# Altium footprint library Rez_Cap.PcbLib: 21 footprints (part 1 of 2)
Each footprint in its own frame and in the unit in brackets; x right, y up, seen from the top. Pads: shape width x height; smd on the part's side, far side on the other; paste and mask are expansions set on the pad; w line width, h text height; cw(c..) or ccw(c..) is an arc to the next point about the centre after c.
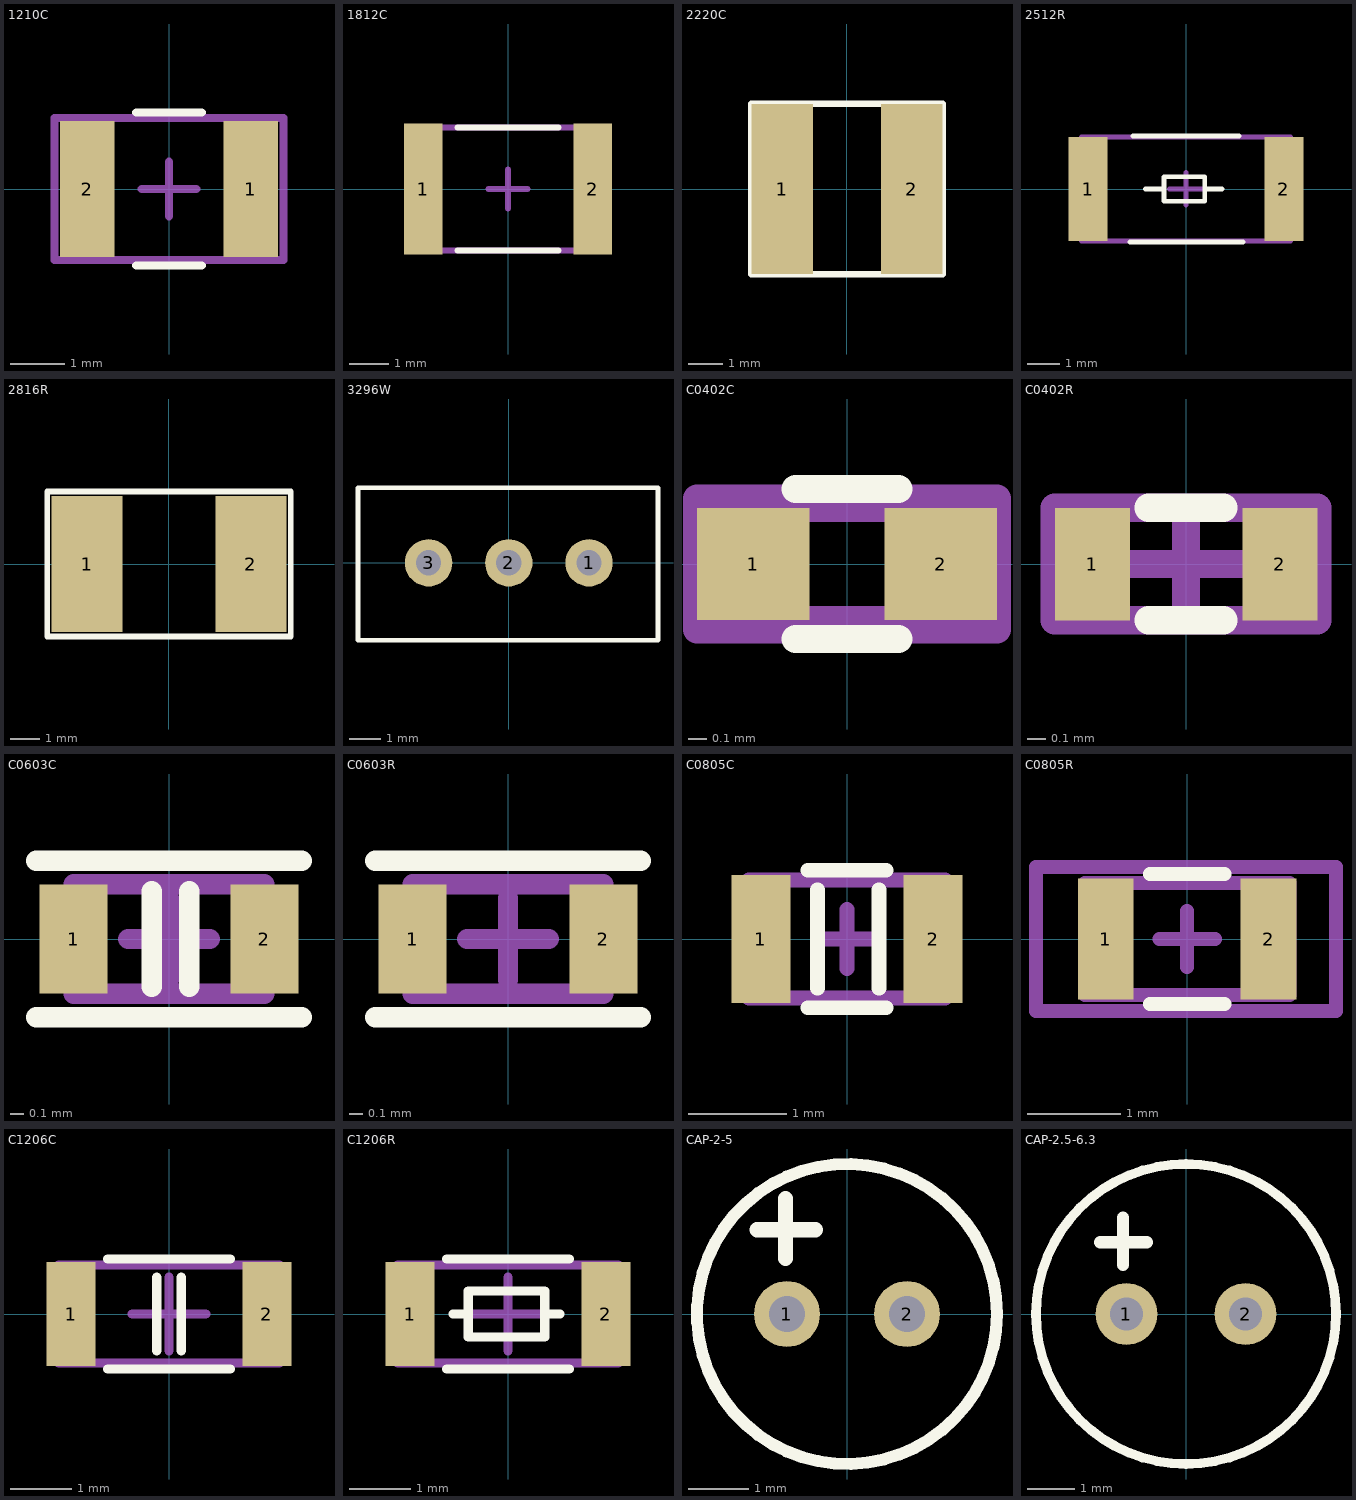
[diagram p0: the footprints below, top view; thin cyan lines are the x and y axes]

## 1210C [mm]
pads (2):
  rect 1x2.5 smd: 1(1.5,0) 2(-1.5,0)
Top Overlay:
  lines w0.15: -0.6,-1.4 0.6,-1.4 ; -0.6,1.4 0.6,1.4
Top Courtyard:
  lines w0.15: -0.5,0 0.5,0 ; 0,-0.5 0,0.5 ; -2.1,-1.3 -2.1,1.3 2.1,1.3 2.1,-1.3 -2.1,-1.3
3D body: height 1.6, standoff 0, extent -2,-1.3 -0.9,1.3
3D body: height 1.6, standoff 0, extent -0.9,-1.3 0.9,1.3
3D body: height 1.6, standoff 0, extent 0.9,-1.3 2,1.3

## 1812С [mm]
pads (2):
  rect 1x3.35 smd: 1(-2.175,0) 2(2.175,0)
Top Overlay:
  lines w0.15: -1.3,-1.575 1.3,-1.575 ; -1.3,1.575 1.3,1.575
Top Courtyard:
  lines w0.15: -0.5,0 0.5,0 ; 0,-0.5 0,0.5 ; -2.3,-1.575 -2.3,1.575 2.3,1.575 2.3,-1.575 -2.3,-1.575
3D body "C1812C.step": height 1, standoff 0, extent -2.25,-1.6 2.25,1.6

## 2220С [mm]
pads (2):
  rect 1.8x5 smd: 1(-1.9,0) 2(1.9,0)
Top Overlay:
  lines w0.2: -2.8,-2.5 2.8,-2.5 2.8,2.5 -2.8,2.5 -2.8,0 -2.8,-2.5

## 2512R [mm]
pads (2):
  rect 1.2x3.2 smd: 1(-3,0) 2(3,0)
Top Overlay:
  lines w0.15: -1.725,-1.625 1.75,-1.625 ; -1.625,1.625 1.625,1.625 ; -1.25,0 -0.675,0 ; 1.1,0 0.575,0 ; -0.675,0 -0.675,0.375 0.575,0.375 0.575,0 ; -0.675,0 -0.675,-0.375 0.575,-0.375 0.575,0
Top Courtyard:
  lines w0.15: -0.5,0 0.5,0 ; 0,-0.5 0,0.5 ; -3.2,-1.6 -3.2,1.6 3.2,1.6 3.2,-1.6 -3.2,-1.6
3D body: height 0.55, standoff 0, extent -2.5,-1.6 2.5,1.6
3D body: height 0.55, standoff 0, extent 2.5,-1.6 3.2,1.6
3D body: height 0.55, standoff 0, extent -3.2,-1.6 -2.5,1.6

## 2816R [mm]
pads (2):
  rect 2.45x4.7 smd: 1(-2.825,0) 2(2.825,0)
Top Overlay:
  lines w0.2: -4.2,-2.5 -4.2,0 -4.2,2.5 4.2,2.5 4.2,-2.5 -4.2,-2.5

## 3296W [mm]
pads (3):
  round 1.5 hole 0.8: 1(2.54,0) 2(0,0) 3(-2.54,0)
Top Overlay:
  lines w0.15: -4.775,-2.45 -4.775,2.375 4.725,2.375 4.725,-2.45 -4.775,-2.45
3D body "3296W.STEP": height 11.52, standoff -3, extent -4.765,-2.43 4.765,2.4

## C0402C [mm]
pads (2):
  rect 0.6x0.6 smd: 1(-0.5,0) 2(0.5,0)
Top Overlay:
  lines w0.15: -0.275,-0.4 0.275,-0.4 ; -0.275,0.4 0.275,0.4
Top Courtyard:
  lines w0.15: -0.8,-0.3 0.8,-0.3 0.8,0.3 -0.8,0.3 -0.8,-0.3
Mechanical 29:
  lines w0.15: -0.8,-0.35 -0.8,0.35 0.8,0.35 0.8,-0.35 -0.8,-0.35
3D body "0402C.STEP": height 0.36, standoff 0, extent -0.5,-0.265 0.5,0.265

## C0402R [mm]
pads (2):
  rect 0.4x0.6 smd: 1(-0.5,0) 2(0.5,0)
Top Overlay:
  lines w0.15: -0.2,-0.3 0.2,-0.3 ; -0.2,0.3 0.2,0.3
Top Courtyard:
  lines w0.15: -0.3,0 0.3,0 ; 0,-0.3 0,0.3 ; -0.7,-0.3 -0.7,0.3 0.7,0.3 0.7,-0.3 -0.7,-0.3
3D body "0402R.STEP": height 0.34, standoff 0, extent -0.52,-0.3 0.52,0.3

## C0603C [mm]
height 0.8
pads (2):
  rect 0.5x0.8 smd: 1(-0.7,0) 2(0.7,0)
Top Overlay:
  lines w0.15: -0.975,-0.575 0.975,-0.575 ; -0.975,0.575 0.975,0.575 ; -0.127,-0.35 -0.127,0.35 ; 0.148,-0.35 0.148,0.35
Top Courtyard:
  lines w0.15: -0.3,0 0.3,0 ; 0,-0.3 0,0.3 ; -0.7,-0.4 -0.7,0.4 0.7,0.4 0.7,-0.4 -0.7,-0.4
3D body: height 0.5, standoff 0, extent 0.4,-0.4 0.8,0.4
3D body: height 0.5, standoff 0, extent -0.4,-0.4 0.4,0.4
3D body: height 0.5, standoff 0, extent -0.8,-0.4 -0.4,0.4

## C0603R [mm]
height 0.45
pads (2):
  rect 0.5x0.8 smd: 1(-0.7,0) 2(0.7,0)
Top Overlay:
  lines w0.15: -0.975,-0.575 0.975,-0.575 ; -0.975,0.575 0.975,0.575
Top Courtyard:
  lines w0.15: -0.3,0 0.3,0 ; 0,-0.3 0,0.3 ; -0.7,-0.4 -0.7,0.4 0.7,0.4 0.7,-0.4 -0.7,-0.4
3D body: height 0.45, standoff 0, extent -0.5,-0.41 0.5,0.41
3D body: height 0.45, standoff 0, extent 0.5,-0.41 0.7,0.41
3D body: height 0.45, standoff 0, extent -0.7,-0.41 -0.5,0.41

## C0805C [mm]
height 1
pads (2):
  rect 0.6x1.3 smd: 1(-0.875,0) 2(0.875,0)
Top Overlay:
  lines w0.15: -0.4,-0.7 0.4,-0.7 ; -0.4,0.7 0.4,0.7 ; -0.3,-0.5 -0.3,0.5 ; 0.325,-0.5 0.325,0.5
Top Courtyard:
  lines w0.15: -0.3,0 0.3,0 ; 0,-0.3 0,0.3 ; -1,-0.6 -1,0.6 1,0.6 1,-0.6 -1,-0.6
3D body: height 0.8, standoff 0, extent 0.4,-0.6 1,0.6
3D body: height 0.8, standoff 0, extent -0.4,-0.6 0.4,0.6
3D body: height 0.8, standoff 0, extent -1,-0.6 -0.4,0.6

## C0805R [mm]
height 1
pads (2):
  rect 0.6x1.3 smd: 1(-0.875,0) 2(0.875,0)
Top Overlay:
  lines w0.15: -0.4,-0.7 0.4,-0.7 ; -0.4,0.7 0.4,0.7
Top Courtyard:
  lines w0.15: -0.3,0 0.3,0 ; 0,-0.3 0,0.3 ; -1.1,-0.6 1.1,-0.6 1.1,0.6 -1.1,0.6 -1.1,-0.6
Mechanical 29:
  lines w0.15: -1.625,-0.775 -1.625,0.775 1.6,0.775 1.6,-0.775 -1.625,-0.775
  text ".Designator" at -1.5,-0.5 h1
3D body: height 0.5, standoff 0, extent 0.4,-0.6 1,0.6
3D body: height 0.5, standoff 0, extent -0.4,-0.6 0.4,0.6
3D body: height 0.5, standoff 0, extent -1,-0.6 -0.4,0.6

## C1206C [mm]
pads (2):
  rect 0.8x1.7 smd: 1(-1.6,0) 2(1.6,0)
Top Overlay:
  lines w0.15: -1,-0.9 1,-0.9 ; -1,0.9 1,0.9 ; -0.2,-0.6 -0.2,0.6 ; 0.2,-0.6 0.2,0.6
Top Courtyard:
  lines w0.15: -0.6,0 0.6,0 ; 0,-0.6 0,0.6 ; -1.8,-0.8 1.8,-0.8 1.8,0.8 -1.8,0.8 -1.8,-0.8
3D body: height 0.8, standoff 0, extent 0.9,-0.8 1.7,0.8
3D body: height 0.8, standoff 0, extent -0.9,-0.8 0.9,0.8
3D body: height 0.8, standoff 0, extent -1.7,-0.8 -0.9,0.8

## C1206R [mm]
pads (2):
  rect 0.8x1.7 smd: 1(-1.6,0) 2(1.6,0)
Top Overlay:
  lines w0.15: -1,-0.9 1,-0.9 ; -1,0.9 1,0.9 ; -0.9,0 -0.65,0 ; 0.85,0 0.6,0 ; -0.65,0 -0.65,-0.375 0.6,-0.375 0.6,0 ; -0.65,0 -0.65,0.375 0.6,0.375 0.6,0
Top Courtyard:
  lines w0.15: -0.6,0 0.6,0 ; 0,-0.6 0,0.6 ; -1.8,-0.8 -1.8,0.8 1.8,0.8 1.8,-0.8 -1.8,-0.8
3D body: height 0.8, standoff 0, extent 0.9,-0.8 1.7,0.8
3D body: height 0.8, standoff 0, extent -0.9,-0.8 0.9,0.8
3D body: height 0.8, standoff 0, extent -1.7,-0.8 -0.9,0.8

## CAP-2-5 [mm]
pads (2):
  round 1.1 hole 0.6 unplated: 1(-1,0) 2(1,0)
Top Overlay:
  circle w0.2: c0,0 r2.5
  lines w0.254: -1.5,1.406 -0.525,1.406 ; -1.024,0.925 -1.024,1.925

## CAP-2.5-6.3 [mm]
pads (2):
  round 1.3 hole 0.7 unplated: 1(-1.25,0) 2(1.25,0)
Top Overlay:
  circle w0.2: c0,0 r3.15
  lines w0.254: -1.8,1.506 -0.825,1.506 ; -1.324,1.025 -1.324,2.025